# Altium schematic symbol library SnapEDAsch.SchLib: 1 symbol
Pins are listed as number, name and electrical type; pins without a type are passive.

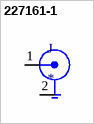
[diagram p0: symbol 227161-1]

## 227161-1
designator J
BNC Series 50 Ohm Right Angle Through Hole Jack Female Socket Connector; MF: TE Connectivity; MP: 227161-1; Number_of_Positions: 1; Value: *; TE_purchase_URL: https://www.te.com/usa-en/product-227161-1.html?te_bu=Cor&te_type=disp&te_campaign=seda_glo_cor-seda-global-disp-prtnr-fy19-seda-model-bom-cta_sma-317_1&elqCampaignId=32493; Availability: Unavailable; Price: None; EU_RoHS_Compliance: Compliant with Exemptions; Package: None; SnapEDA_Link: https://www.snapeda.com/parts/227161-1/TE%20Connectivity%20AMP%20Connectors/view-part/791024/?ref=snap
footprint TE_227161-1
pins: 1 C, 2 G (power)